# Altium schematic symbol library sym-0004.SchLib: 1 symbol
Pins are listed as number, name and electrical type; pins without a type are passive.

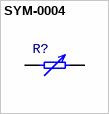
[diagram p0: symbol SYM-0004]

## SYM-0004
designator R?
RTD(Resistance Temperature Detector)
pins: 1, 2
1 alternate drawing of the same symbol